# Altium schematic symbol library CGA2B2C0G1H180J050BA.Schlib: 1 symbol
Pins are listed as number, name and electrical type; pins without a type are passive.

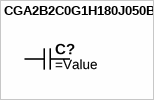
[diagram p0: symbol CGA2B2C0G1H180J050BA]

## CGA2B2C0G1H180J050BA
designator C?
CAP CER 18PF 50V C0G 0402
pins: 1, 2 1